# Altium schematic symbol library 2SJ681_Q_.SchLib: 1 symbol
Pins are listed as number, name and electrical type; pins without a type are passive.

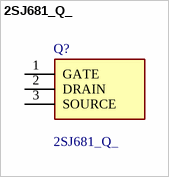
[diagram p0: symbol 2SJ681_Q_]

## 2SJ681_Q_
designator Q?
TOSHIBA Field Effect Transistor Silicon P Channel MOS Type (UMOSIII); Manufacturer_Part_Number: 2SJ681(Q); Geometry.Height: 2.5mm; RS Part Number: *; RS Price/Stock: *; Manufacturer_Name: Toshiba; Datasheet Link: https://datasheet.datasheetarchive.com/originals/distributors/Datasheets-SFU2/DSASFU100039949.pdf
footprint TO230P250X650X900-3P
pins: 1 GATE, 2 DRAIN, 3 SOURCE